# Altium footprint library con-molex-micro-fit-3_0.PCBLIB: 194 footprints (part 8 of 13)
Each footprint in its own frame and in the unit in brackets; x right, y up, seen from the top. Pads: shape width x height; smd on the part's side, far side on the other; paste and mask are expansions set on the pad; w line width, h text height; cw(c..) or ccw(c..) is an arc to the next point about the centre after c.
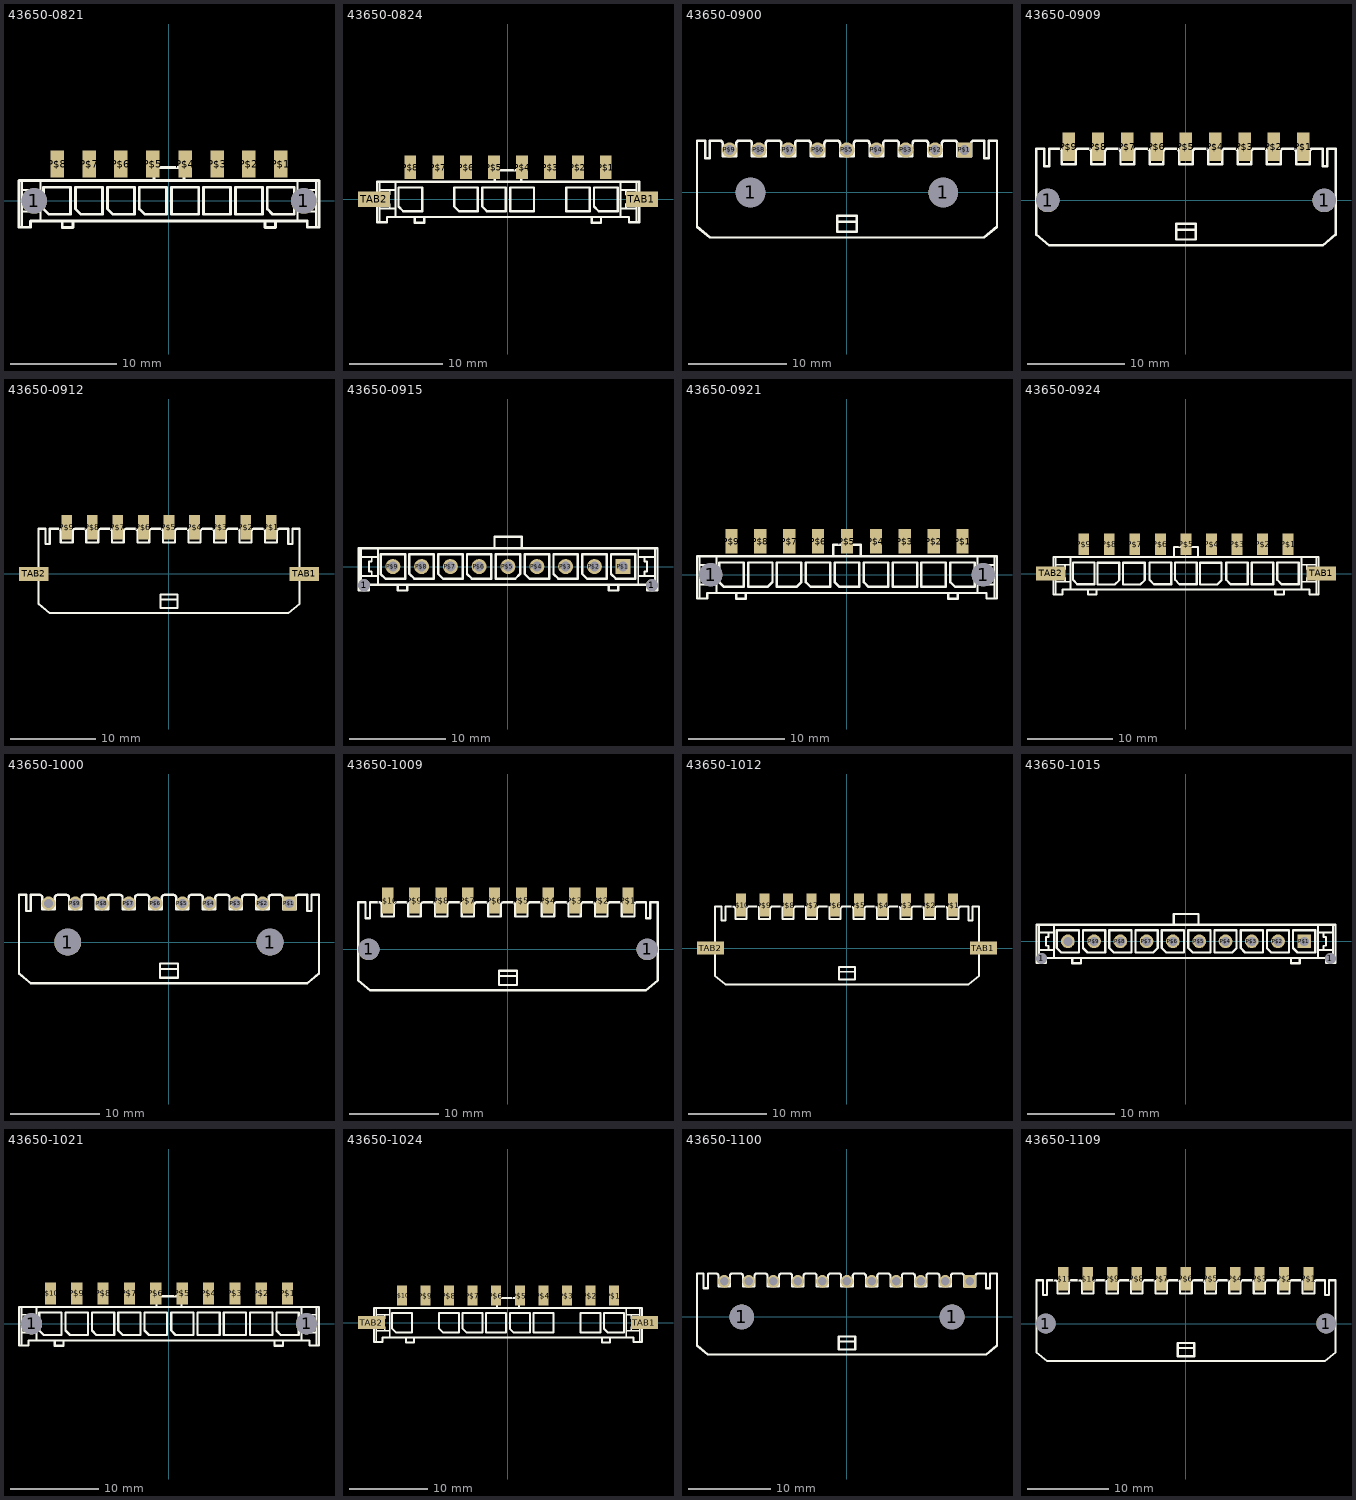
[diagram p7: the footprints below, top view; thin cyan lines are the x and y axes]

## 43650-0821 [mil]
pads (10):
  round 95 hole 95: 1(-498.03,0) 1(499,0)
  rect 50x100 smd: P$1(414,136) P$2(296,136) P$3(178,136) P$4(60,136) P$5(-59.06,136) P$6(-177.17,136) P$7(-295.28,136) P$8(-413.39,136)
Top Overlay:
  lines w8: -543.31,-97.24 -543.31,-39.37 ; -543.31,75 -543.31,40 ; -475.2,-74.8 -475.2,-39.37 ; -475.2,75 -475.2,40 ; 476,-74.8 476,-39.37 ; 476,75 476,40 ; 544,-97.24 544,-39.37 ; 544,75 544,40 ; -543.31,-39.37 -543.31,40 ; -543.31,-39.37 -500,-39.37 ; -543.31,40 -500,40 ; -500,-39.37 -475.2,-39.37 ; -500,-39.37 -500,-19.68 -511.81,-19.68 -511.81,20 -500,20 -500,40 ; -500,40 -475.2,40 ; -475.2,-39.37 -475.2,40 ; 476,-39.37 476,40 ; 476,-39.37 500,-39.37 ; 476,40 500,40 ; 500,-39.37 544,-39.37 ; 500,-39.37 500,-19.68 512,-19.68 512,20 500,20 500,40 ; 500,40 544,40 ; 544,-39.37 544,40
  lines w10: -393.7,-74.8 -354.33,-74.8 ; -393.7,-74.8 -475.2,-74.8 -511.81,-74.8 -511.81,-97.24 -543.31,-97.24 -554.13,-97.24 -554.13,75 -543.31,75 -475.2,75 -55.12,75 ; -393.7,-74.8 -393.7,-98.43 -354.33,-98.43 -354.33,-74.8 ; -354.33,-74.8 355,-74.8 ; -55.12,75 56,75 ; -55.12,75 -55.12,123 56,123 56,75 ; 56,75 476,75 544,75 555,75 555,-97.24 544,-97.24 512,-97.24 512,-74.8 476,-74.8 394,-74.8 ; 355,-74.8 394,-74.8 ; 355,-74.8 355,-98.43 394,-98.43 394,-74.8 ; -463.39,-30 -463.39,50 -363.39,50 -363.39,-50 -443.39,-50 -463.39,-30 ; -345.28,-30 -345.28,50 -245.28,50 -245.28,-50 -325.28,-50 -345.28,-30 ; -227.17,-30 -227.17,50 -127.17,50 -127.17,-50 -207.17,-50 -227.17,-30 ; -109.06,-30 -109.06,50 -9.06,50 -9.06,-50 -89.06,-50 -109.06,-30 ; 10,-50 110,-50 110,50 10,50 10,-50 ; 128,-50 228,-50 228,50 128,50 128,-50 ; 246,-50 346,-50 346,50 246,50 246,-50 ; 364,-30 364,50 464,50 464,-50 384,-50 364,-30

## 43650-0824 [mil]
pads (10):
  rect 50x100 smd: P$1(414,136) P$2(296,136) P$3(178,136) P$4(60,136) P$5(-59.06,136) P$6(-177.17,136) P$7(-295.28,136) P$8(-413.39,136)
  rect 136x65 smd: TAB1(567,0) TAB2(-566.54,0)
Top Overlay:
  lines w8: -543.31,-97.24 -543.31,-39.37 ; -543.31,75 -543.31,40 ; -475.2,-74.8 -475.2,-39.37 ; -475.2,75 -475.2,40 ; 476,-74.8 476,-39.37 ; 476,75 476,40 ; 544,-97.24 544,-39.37 ; 544,75 544,40 ; -543.31,-39.37 -543.31,40 ; -543.31,-39.37 -500,-39.37 ; -543.31,40 -500,40 ; -500,-39.37 -475.2,-39.37 ; -500,-39.37 -500,-19.68 -511.81,-19.68 -511.81,20 -500,20 -500,40 ; -500,40 -475.2,40 ; -475.2,-39.37 -475.2,40 ; 476,-39.37 476,40 ; 476,-39.37 500,-39.37 ; 476,40 500,40 ; 500,-39.37 544,-39.37 ; 500,-39.37 500,-19.68 512,-19.68 512,20 500,20 500,40 ; 500,40 544,40 ; 544,-39.37 544,40
  lines w10: -393.7,-74.8 -354.33,-74.8 ; -393.7,-74.8 -475.2,-74.8 -511.81,-74.8 -511.81,-97.24 -543.31,-97.24 -554.13,-97.24 -554.13,75 -543.31,75 -475.2,75 -55.12,75 ; -393.7,-74.8 -393.7,-98.43 -354.33,-98.43 -354.33,-74.8 ; -354.33,-74.8 355,-74.8 ; -55.12,75 56,75 ; -55.12,75 -55.12,123 56,123 56,75 ; 56,75 476,75 544,75 555,75 555,-97.24 544,-97.24 512,-97.24 512,-74.8 476,-74.8 394,-74.8 ; 355,-74.8 394,-74.8 ; 355,-74.8 355,-98.43 394,-98.43 394,-74.8 ; -463.39,-30 -463.39,50 -363.39,50 -363.39,-50 -443.39,-50 -463.39,-30 ; -227.17,-30 -227.17,50 -127.17,50 -127.17,-50 -207.17,-50 -227.17,-30 ; -109.06,-30 -109.06,50 -9.06,50 -9.06,-50 -89.06,-50 -109.06,-30 ; 10,-50 110,-50 110,50 10,50 10,-50 ; 246,-50 346,-50 346,50 246,50 246,-50 ; 364,-30 364,50 464,50 464,-50 384,-50 364,-30
Bottom Overlay:
  lines w10: -345.28,-50 -345.28,50 -245.28,50 -245.28,-30 -265.28,-50 -345.28,-50 ; 128,-50 128,50 228,50 228,-30 208,-50 128,-50

## 43650-0900 [mil]
pads (11):
  round 119 hole 119: 1(-387.8,0) 1(388,0)
  rect 61.5x61.5 hole 41: P$1(473,171)
  round 61.5 hole 41: P$2(355,171) P$3(237,171) P$4(119,171) P$5(0,171) P$6(-118.11,171) P$7(-236.22,171) P$8(-354.33,171) P$9(-472.44,171)
Top Overlay:
  lines w10: -39.37,-118.11 -39.37,-157.48 40,-157.48 40,-118.11 ; -39.37,-118.11 -39.37,-94.49 40,-94.49 40,-118.11 ; -39.37,-118.11 40,-118.11 ; -603.15,-137.8 -603.15,209 -570.87,209 -570.87,138 -551.18,138 -551.18,209 -511.81,209 cw(c-511.91,197.09) -500,197 -500,146 -444.88,146 -444.88,197 cw(c-432.98,197.09) -433.07,209 -393.7,209 cw(c-393.8,197.09) -381.89,197 -381.89,146 -326.77,146 -326.77,197 cw(c-314.87,197.09) -314.96,209 -275.59,209 cw(c-275.69,197.09) -263.78,197 -263.78,146 -208.66,146 -208.66,197 cw(c-196.76,197.09) -196.85,209 -157.48,209 cw(c-157.57,197.09) -145.67,197 -145.67,146 -90.55,146 -90.55,197 cw(c-78.65,197.09) -78.74,209 -39.37,209 cw(c-39.46,197.09) -27.56,197 -27.56,146 28,146 28,197 cw(c40,197) 40,209 79,209 cw(c79,197) 91,197 91,146 146,146 146,197 cw(c158,197) 158,209 197,209 cw(c197,197) 209,197 209,146 264,146 264,197 cw(c276,197) 276,209 315,209 cw(c315,197) 327,197 327,146 382,146 382,197 cw(c394,197) 394,209 434,209 cw(c431.5,195.67) 445,197 445,146 500,146 500,197 cw(c512,197) 512,209 552,209 552,138 571,138 571,209 604,209 604,-137.8 552,-181.1 -551.18,-181.1 -603.15,-137.8

## 43650-0909 [mil]
pads (11):
  round 95 hole 95: 1(-557.09,0) 1(558,0)
  rect 50x115 smd: P$1(473,216) P$2(355,216) P$3(237,216) P$4(119,216) P$5(0,216) P$6(-118.11,216) P$7(-236.22,216) P$8(-354.33,216) P$9(-472.44,216)
Top Overlay:
  lines w10: -39.37,-118.11 -39.37,-157.48 40,-157.48 40,-118.11 ; -39.37,-118.11 -39.37,-94.49 40,-94.49 40,-118.11 ; -39.37,-118.11 40,-118.11 ; -603.15,-137.8 -603.15,209 -570.87,209 -570.87,138 -551.18,138 -551.18,209 -511.81,209 cw(c-511.91,197.09) -500,197 -500,146 -444.88,146 -444.88,197 cw(c-432.98,197.09) -433.07,209 -393.7,209 cw(c-393.8,197.09) -381.89,197 -381.89,146 -326.77,146 -326.77,197 cw(c-314.87,197.09) -314.96,209 -275.59,209 cw(c-275.69,197.09) -263.78,197 -263.78,146 -208.66,146 -208.66,197 cw(c-196.76,197.09) -196.85,209 -157.48,209 cw(c-157.57,197.09) -145.67,197 -145.67,146 -90.55,146 -90.55,197 cw(c-78.65,197.09) -78.74,209 -39.37,209 cw(c-39.46,197.09) -27.56,197 -27.56,146 28,146 28,197 cw(c40,197) 40,209 79,209 cw(c79,197) 91,197 91,146 146,146 146,197 cw(c158,197) 158,209 197,209 cw(c197,197) 209,197 209,146 264,146 264,197 cw(c276,197) 276,209 315,209 cw(c315,197) 327,197 327,146 382,146 382,197 cw(c394,197) 394,209 434,209 cw(c431.5,195.67) 445,197 445,146 500,146 500,197 cw(c512,197) 512,209 552,209 552,138 571,138 571,209 604,209 604,-137.8 552,-181.1 -551.18,-181.1 -603.15,-137.8

## 43650-0912 [mil]
pads (11):
  rect 50x115 smd: P$1(473,216) P$2(355,216) P$3(237,216) P$4(119,216) P$5(0,216) P$6(-118.11,216) P$7(-236.22,216) P$8(-354.33,216) P$9(-472.44,216)
  rect 136x65 smd: TAB1(626,0) TAB2(-625.2,0)
Top Overlay:
  lines w10: -39.37,-118.11 -39.37,-157.48 40,-157.48 40,-118.11 ; -39.37,-118.11 -39.37,-94.49 40,-94.49 40,-118.11 ; -39.37,-118.11 40,-118.11 ; -603.15,-137.8 -603.15,209 -570.87,209 -570.87,138 -551.18,138 -551.18,209 -511.81,209 cw(c-511.91,197.09) -500,197 -500,146 -444.88,146 -444.88,197 cw(c-432.98,197.09) -433.07,209 -393.7,209 cw(c-393.8,197.09) -381.89,197 -381.89,146 -326.77,146 -326.77,197 cw(c-314.87,197.09) -314.96,209 -275.59,209 cw(c-275.69,197.09) -263.78,197 -263.78,146 -208.66,146 -208.66,197 cw(c-196.76,197.09) -196.85,209 -157.48,209 cw(c-157.57,197.09) -145.67,197 -145.67,146 -90.55,146 -90.55,197 cw(c-78.65,197.09) -78.74,209 -39.37,209 cw(c-39.46,197.09) -27.56,197 -27.56,146 28,146 28,197 cw(c40,197) 40,209 79,209 cw(c79,197) 91,197 91,146 146,146 146,197 cw(c158,197) 158,209 197,209 cw(c197,197) 209,197 209,146 264,146 264,197 cw(c276,197) 276,209 315,209 cw(c315,197) 327,197 327,146 382,146 382,197 cw(c394,197) 394,209 434,209 cw(c431.5,195.67) 445,197 445,146 500,146 500,197 cw(c512,197) 512,209 552,209 552,138 571,138 571,209 604,209 604,-137.8 552,-181.1 -551.18,-181.1 -603.15,-137.8

## 43650-0915 [mil]
pads (11):
  round 50 hole 50: 1(-590.55,-77.17) 1(591,-77.17)
  rect 61.5x61.5 hole 41: P$1(473,0)
  round 61.5 hole 41: P$2(355,0) P$3(237,0) P$4(119,0) P$5(0,0) P$6(-118.11,0) P$7(-236.22,0) P$8(-354.33,0) P$9(-472.44,0)
Top Overlay:
  lines w8: -602.36,-97.24 -602.36,-39.37 ; -602.36,75 -602.36,40 ; -534.25,-74.8 -534.25,-39.37 ; -534.25,75 -534.25,40 ; 535,-74.8 535,-39.37 ; 535,75 535,40 ; 603,-97.24 603,-39.37 ; 603,75 603,40 ; -602.36,-39.37 -602.36,40 ; -602.36,-39.37 -559.06,-39.37 ; -602.36,40 -559.06,40 ; -559.06,-39.37 -534.25,-39.37 ; -559.06,-39.37 -559.06,-19.68 -570.87,-19.68 -570.87,20 -559.06,20 -559.06,40 ; -559.06,40 -534.25,40 ; -534.25,-39.37 -534.25,40 ; 535,-39.37 535,40 ; 535,-39.37 560,-39.37 ; 535,40 560,40 ; 560,-39.37 603,-39.37 ; 560,-39.37 560,-19.68 571,-19.68 571,20 560,20 560,40 ; 560,40 603,40 ; 603,-39.37 603,40
  lines w10: -452.76,-74.8 -413.39,-74.8 ; -452.76,-74.8 -534.25,-74.8 -570.87,-74.8 -570.87,-97.24 -602.36,-97.24 -613.19,-97.24 -613.19,75 -602.36,75 -534.25,75 -55.12,75 ; -452.76,-74.8 -452.76,-98.43 -413.39,-98.43 -413.39,-74.8 ; -413.39,-74.8 414,-74.8 ; -55.12,75 56,75 ; -55.12,75 -55.12,123 56,123 56,75 ; 56,75 535,75 603,75 614,75 614,-97.24 603,-97.24 571,-97.24 571,-74.8 535,-74.8 453,-74.8 ; 414,-74.8 453,-74.8 ; 414,-74.8 414,-98.43 453,-98.43 453,-74.8 ; -522.44,-30 -522.44,50 -422.44,50 -422.44,-50 -502.44,-50 -522.44,-30 ; -404.33,-30 -404.33,50 -304.33,50 -304.33,-50 -384.33,-50 -404.33,-30 ; -286.22,-30 -286.22,50 -186.22,50 -186.22,-50 -266.22,-50 -286.22,-30 ; -168.11,-30 -168.11,50 -68.11,50 -68.11,-50 -148.11,-50 -168.11,-30 ; -50,-50 -50,50 50,50 50,-30 30,-50 -50,-50 ; 69,-30 69,50 169,50 169,-50 89,-50 69,-30 ; 187,-30 187,50 287,50 287,-50 207,-50 187,-30 ; 305,-30 305,50 405,50 405,-50 325,-50 305,-30 ; 423,-30 423,50 523,50 523,-50 443,-50 423,-30

## 43650-0921 [mil]
pads (11):
  round 95 hole 95: 1(-557.09,0) 1(558,0)
  rect 50x100 smd: P$1(473,136) P$2(355,136) P$3(237,136) P$4(119,136) P$5(0,136) P$6(-118.11,136) P$7(-236.22,136) P$8(-354.33,136) P$9(-472.44,136)
Top Overlay:
  lines w8: -602.36,-97.24 -602.36,-39.37 ; -602.36,75 -602.36,40 ; -534.25,-74.8 -534.25,-39.37 ; -534.25,75 -534.25,40 ; 535,-74.8 535,-39.37 ; 535,75 535,40 ; 603,-97.24 603,-39.37 ; 603,75 603,40 ; -602.36,-39.37 -602.36,40 ; -602.36,-39.37 -559.06,-39.37 ; -602.36,40 -559.06,40 ; -559.06,-39.37 -534.25,-39.37 ; -559.06,-39.37 -559.06,-19.68 -570.87,-19.68 -570.87,20 -559.06,20 -559.06,40 ; -559.06,40 -534.25,40 ; -534.25,-39.37 -534.25,40 ; 535,-39.37 535,40 ; 535,-39.37 560,-39.37 ; 535,40 560,40 ; 560,-39.37 603,-39.37 ; 560,-39.37 560,-19.68 571,-19.68 571,20 560,20 560,40 ; 560,40 603,40 ; 603,-39.37 603,40
  lines w10: -452.76,-74.8 -413.39,-74.8 ; -452.76,-74.8 -534.25,-74.8 -570.87,-74.8 -570.87,-97.24 -602.36,-97.24 -613.19,-97.24 -613.19,75 -602.36,75 -534.25,75 -55.12,75 ; -452.76,-74.8 -452.76,-98.43 -413.39,-98.43 -413.39,-74.8 ; -413.39,-74.8 414,-74.8 ; -55.12,75 56,75 ; -55.12,75 -55.12,123 56,123 56,75 ; 56,75 535,75 603,75 614,75 614,-97.24 603,-97.24 571,-97.24 571,-74.8 535,-74.8 453,-74.8 ; 414,-74.8 453,-74.8 ; 414,-74.8 414,-98.43 453,-98.43 453,-74.8 ; -522.44,-30 -522.44,50 -422.44,50 -422.44,-50 -502.44,-50 -522.44,-30 ; -404.33,-50 -404.33,50 -304.33,50 -304.33,-30 -324.33,-50 -404.33,-50 ; -286.22,-50 -286.22,50 -186.22,50 -186.22,-30 -206.22,-50 -286.22,-50 ; -168.11,-30 -168.11,50 -68.11,50 -68.11,-50 -148.11,-50 -168.11,-30 ; -50,-30 -50,50 50,50 50,-50 -30,-50 -50,-30 ; 69,-30 69,50 169,50 169,-50 89,-50 69,-30 ; 187,-50 287,-50 287,50 187,50 187,-50 ; 305,-50 405,-50 405,50 305,50 305,-50 ; 423,-30 423,50 523,50 523,-50 443,-50 423,-30

## 43650-0924 [mil]
pads (11):
  rect 50x100 smd: P$1(474,138) P$2(356,138) P$3(238,138) P$4(120,138) P$5(2,138) P$6(-116.68,138) P$7(-234.79,138) P$8(-352.9,138) P$9(-471.01,138)
  rect 136x65 smd: TAB1(628,3) TAB2(-624.16,3)
Top Overlay:
  lines w8: -600.93,-94.37 -600.93,-36.5 ; -600.93,78 -600.93,43 ; -532.82,-71.93 -532.82,-36.5 ; -532.82,78 -532.82,43 ; 536,-71.93 536,-36.5 ; 536,78 536,43 ; 604,-94.37 604,-36.5 ; 604,78 604,43 ; -600.93,-36.5 -600.93,43 ; -600.93,-36.5 -557.62,-36.5 ; -600.93,43 -557.62,43 ; -557.62,-36.5 -532.82,-36.5 ; -557.62,-36.5 -557.62,-16.81 -569.43,-16.81 -569.43,23 -557.62,23 -557.62,43 ; -557.62,43 -532.82,43 ; -532.82,-36.5 -532.82,43 ; 536,-36.5 536,43 ; 536,-36.5 561,-36.5 ; 536,43 561,43 ; 561,-36.5 604,-36.5 ; 561,-36.5 561,-16.81 573,-16.81 573,23 561,23 561,43 ; 561,43 604,43 ; 604,-36.5 604,43
  lines w10: -451.32,-71.93 -411.95,-71.93 ; -451.32,-71.93 -532.82,-71.93 -569.43,-71.93 -569.43,-94.37 -600.93,-94.37 -611.76,-94.37 -611.76,78 -600.93,78 -532.82,78 -53.69,78 ; -451.32,-71.93 -451.32,-95.55 -411.95,-95.55 -411.95,-71.93 ; -411.95,-71.93 415,-71.93 ; -53.69,78 57,78 ; -53.69,78 -53.69,125 57,125 57,78 ; 57,78 536,78 604,78 615,78 615,-94.37 604,-94.37 573,-94.37 573,-71.93 536,-71.93 455,-71.93 ; 415,-71.93 455,-71.93 ; 415,-71.93 415,-95.55 455,-95.55 455,-71.93 ; -521.01,-27.13 -521.01,53 -421.01,53 -421.01,-47.13 -501.01,-47.13 -521.01,-27.13 ; -407.2,-48.57 -407.2,52 -307.2,52 -307.2,-28.57 -327.2,-48.57 -407.2,-48.57 ; -289.09,-48.57 -289.09,52 -189.09,52 -189.09,-28.57 -209.09,-48.57 -289.09,-48.57 ; -166.68,-27.13 -166.68,53 -66.68,53 -66.68,-47.13 -146.68,-47.13 -166.68,-27.13 ; -48.57,-27.13 -48.57,53 52,53 52,-47.13 -28.57,-47.13 -48.57,-27.13 ; 66,-48.57 66,52 166,52 166,-28.57 146,-48.57 66,-48.57 ; 188,-27.13 188,53 288,53 288,-47.13 208,-47.13 188,-27.13 ; 306,-47.13 406,-47.13 406,53 306,53 306,-47.13 ; 424,-27.13 424,53 524,53 524,-47.13 444,-47.13 424,-27.13

## 43650-1000 [mil]
pads (12):
  round 119 hole 119: 1(-446.85,0) 1(447,0)
  rect 61.5x61.5 hole 41: P$1(532,171)
  round 61.5 hole 41: P$2(414,171) P$3(296,171) P$4(178,171) P$5(60,171) P$6(-59.06,171) P$7(-177.17,171) P$8(-295.28,171) P$9(-413.39,171) P$10(-531.5,171)
Top Overlay:
  lines w10: -39.37,-118.11 -39.37,-157.48 40,-157.48 40,-118.11 ; -39.37,-118.11 -39.37,-94.49 40,-94.49 40,-118.11 ; -39.37,-118.11 40,-118.11 ; -662.2,-137.8 -662.2,209 -629.92,209 -629.92,138 -610.24,138 -610.24,209 -570.87,209 cw(c-570.96,197.09) -559.06,197 -559.06,146 -503.94,146 -503.94,197 cw(c-492.03,197.09) -492.13,209 -452.76,209 cw(c-452.85,197.09) -440.94,197 -440.94,146 -385.83,146 -385.83,197 cw(c-373.92,197.09) -374.02,209 -334.65,209 cw(c-334.74,197.09) -322.83,197 -322.83,146 -267.72,146 -267.72,197 cw(c-255.81,197.09) -255.91,209 -216.54,209 cw(c-216.63,197.09) -204.72,197 -204.72,146 -149.61,146 -149.61,197 cw(c-137.7,197.09) -137.8,209 -98.43,209 cw(c-98.52,197.09) -86.61,197 -86.61,146 -31.5,146 -31.5,197 cw(c-19.59,197.09) -19.69,209 20,209 cw(c20,197) 32,197 32,146 87,146 87,197 cw(c99,197) 99,209 138,209 cw(c138,197) 150,197 150,146 205,146 205,197 cw(c217,197) 217,209 256,209 cw(c256,197) 268,197 268,146 323,146 323,197 cw(c335,197) 335,209 375,209 cw(c374.5,197.5) 386,197 386,146 441,146 441,197 cw(c453,197) 453,209 493,209 cw(c490.5,195.67) 504,197 504,146 560,146 560,197 cw(c571.5,197.5) 571,209 611,209 611,138 630,138 630,209 663,209 663,-137.8 611,-181.1 -610.24,-181.1 -662.2,-137.8

## 43650-1009 [mil]
pads (12):
  round 95 hole 95: 1(-616.14,0) 1(617,0)
  rect 50x115 smd: P$1(532,216) P$2(414,216) P$3(296,216) P$4(178,216) P$5(60,216) P$6(-59.06,216) P$7(-177.17,216) P$8(-295.28,216) P$9(-413.39,216) P$10(-531.5,216)
Top Overlay:
  lines w10: -39.37,-118.11 -39.37,-157.48 40,-157.48 40,-118.11 ; -39.37,-118.11 -39.37,-94.49 40,-94.49 40,-118.11 ; -39.37,-118.11 40,-118.11 ; -662.2,-137.8 -662.2,209 -629.92,209 -629.92,138 -610.24,138 -610.24,209 -570.87,209 cw(c-570.96,197.09) -559.06,197 -559.06,146 -503.94,146 -503.94,197 cw(c-492.03,197.09) -492.13,209 -452.76,209 cw(c-452.85,197.09) -440.94,197 -440.94,146 -385.83,146 -385.83,197 cw(c-373.92,197.09) -374.02,209 -334.65,209 cw(c-334.74,197.09) -322.83,197 -322.83,146 -267.72,146 -267.72,197 cw(c-255.81,197.09) -255.91,209 -216.54,209 cw(c-216.63,197.09) -204.72,197 -204.72,146 -149.61,146 -149.61,197 cw(c-137.7,197.09) -137.8,209 -98.43,209 cw(c-98.52,197.09) -86.61,197 -86.61,146 -31.5,146 -31.5,197 cw(c-19.59,197.09) -19.69,209 20,209 cw(c20,197) 32,197 32,146 87,146 87,197 cw(c99,197) 99,209 138,209 cw(c138,197) 150,197 150,146 205,146 205,197 cw(c217,197) 217,209 256,209 cw(c256,197) 268,197 268,146 323,146 323,197 cw(c335,197) 335,209 375,209 cw(c374.5,197.5) 386,197 386,146 441,146 441,197 cw(c453,197) 453,209 493,209 cw(c490.5,195.67) 504,197 504,146 560,146 560,197 cw(c571.5,197.5) 571,209 611,209 611,138 630,138 630,209 663,209 663,-137.8 611,-181.1 -610.24,-181.1 -662.2,-137.8

## 43650-1012 [mil]
pads (12):
  rect 50x115 smd: P$1(532,216) P$2(414,216) P$3(296,216) P$4(178,216) P$5(60,216) P$6(-59.06,216) P$7(-177.17,216) P$8(-295.28,216) P$9(-413.39,216) P$10(-531.5,216)
  rect 136x65 smd: TAB1(685,0) TAB2(-684.25,0)
Top Overlay:
  lines w10: -39.37,-118.11 -39.37,-157.48 40,-157.48 40,-118.11 ; -39.37,-118.11 -39.37,-94.49 40,-94.49 40,-118.11 ; -39.37,-118.11 40,-118.11 ; -662.2,-137.8 -662.2,209 -629.92,209 -629.92,138 -610.24,138 -610.24,209 -570.87,209 cw(c-570.96,197.09) -559.06,197 -559.06,146 -503.94,146 -503.94,197 cw(c-492.03,197.09) -492.13,209 -452.76,209 cw(c-452.85,197.09) -440.94,197 -440.94,146 -385.83,146 -385.83,197 cw(c-373.92,197.09) -374.02,209 -334.65,209 cw(c-334.74,197.09) -322.83,197 -322.83,146 -267.72,146 -267.72,197 cw(c-255.81,197.09) -255.91,209 -216.54,209 cw(c-216.63,197.09) -204.72,197 -204.72,146 -149.61,146 -149.61,197 cw(c-137.7,197.09) -137.8,209 -98.43,209 cw(c-98.52,197.09) -86.61,197 -86.61,146 -31.5,146 -31.5,197 cw(c-19.59,197.09) -19.69,209 20,209 cw(c20,197) 32,197 32,146 87,146 87,197 cw(c99,197) 99,209 138,209 cw(c138,197) 150,197 150,146 205,146 205,197 cw(c217,197) 217,209 256,209 cw(c256,197) 268,197 268,146 323,146 323,197 cw(c335,197) 335,209 375,209 cw(c374.5,197.5) 386,197 386,146 441,146 441,197 cw(c453,197) 453,209 493,209 cw(c490.5,195.67) 504,197 504,146 560,146 560,197 cw(c571.5,197.5) 571,209 611,209 611,138 630,138 630,209 663,209 663,-137.8 611,-181.1 -610.24,-181.1 -662.2,-137.8

## 43650-1015 [mil]
pads (12):
  round 50 hole 50: 1(-649.61,-77.17) 1(650,-77.17)
  rect 61.5x61.5 hole 41: P$1(532,0)
  round 61.5 hole 41: P$2(414,0) P$3(296,0) P$4(178,0) P$5(60,0) P$6(-59.06,0) P$7(-177.17,0) P$8(-295.28,0) P$9(-413.39,0) P$10(-531.5,0)
Top Overlay:
  lines w8: -661.42,-97.24 -661.42,-39.37 ; -661.42,75 -661.42,40 ; -593.31,-74.8 -593.31,-39.37 ; -593.31,75 -593.31,40 ; 594,-74.8 594,-39.37 ; 594,75 594,40 ; 662,-97.24 662,-39.37 ; 662,75 662,40 ; -661.42,-39.37 -661.42,40 ; -661.42,-39.37 -618.11,-39.37 ; -661.42,40 -618.11,40 ; -618.11,-39.37 -593.31,-39.37 ; -618.11,-39.37 -618.11,-19.68 -629.92,-19.68 -629.92,20 -618.11,20 -618.11,40 ; -618.11,40 -593.31,40 ; -593.31,-39.37 -593.31,40 ; 594,-39.37 594,40 ; 594,-39.37 619,-39.37 ; 594,40 619,40 ; 619,-39.37 662,-39.37 ; 619,-39.37 619,-19.68 630,-19.68 630,20 619,20 619,40 ; 619,40 662,40 ; 662,-39.37 662,40
  lines w10: -511.81,-74.8 -472.44,-74.8 ; -511.81,-74.8 -593.31,-74.8 -629.92,-74.8 -629.92,-97.24 -661.42,-97.24 -672.24,-97.24 -672.24,75 -661.42,75 -593.31,75 -55.12,75 ; -511.81,-74.8 -511.81,-98.43 -472.44,-98.43 -472.44,-74.8 ; -472.44,-74.8 473,-74.8 ; -55.12,75 56,75 ; -55.12,75 -55.12,123 56,123 56,75 ; 56,75 594,75 662,75 673,75 673,-97.24 662,-97.24 630,-97.24 630,-74.8 594,-74.8 512,-74.8 ; 473,-74.8 512,-74.8 ; 473,-74.8 473,-98.43 512,-98.43 512,-74.8 ; -581.5,-30 -581.5,50 -481.5,50 -481.5,-50 -561.5,-50 -581.5,-30 ; -463.39,-30 -463.39,50 -363.39,50 -363.39,-50 -443.39,-50 -463.39,-30 ; -345.28,-30 -345.28,50 -245.28,50 -245.28,-50 -325.28,-50 -345.28,-30 ; -227.17,-50 -227.17,50 -127.17,50 -127.17,-30 -147.17,-50 -227.17,-50 ; -109.06,-30 -109.06,50 -9.06,50 -9.06,-50 -89.06,-50 -109.06,-30 ; 10,-30 10,50 110,50 110,-50 30,-50 10,-30 ; 128,-50 128,50 228,50 228,-30 208,-50 128,-50 ; 246,-30 246,50 346,50 346,-50 266,-50 246,-30 ; 364,-30 364,50 464,50 464,-50 384,-50 364,-30 ; 482,-30 482,50 582,50 582,-50 502,-50 482,-30

## 43650-1021 [mil]
pads (12):
  round 95 hole 95: 1(-616.14,0) 1(617,0)
  rect 50x100 smd: P$1(532,136) P$2(414,136) P$3(296,136) P$4(178,136) P$5(60,136) P$6(-59.06,136) P$7(-177.17,136) P$8(-295.28,136) P$9(-413.39,136) P$10(-531.5,136)
Top Overlay:
  lines w8: -661.42,-97.24 -661.42,-39.37 ; -661.42,75 -661.42,40 ; -593.31,-74.8 -593.31,-39.37 ; -593.31,75 -593.31,40 ; 594,-74.8 594,-39.37 ; 594,75 594,40 ; 662,-97.24 662,-39.37 ; 662,75 662,40 ; -661.42,-39.37 -661.42,40 ; -661.42,-39.37 -618.11,-39.37 ; -661.42,40 -618.11,40 ; -618.11,-39.37 -593.31,-39.37 ; -618.11,-39.37 -618.11,-19.68 -629.92,-19.68 -629.92,20 -618.11,20 -618.11,40 ; -618.11,40 -593.31,40 ; -593.31,-39.37 -593.31,40 ; 594,-39.37 594,40 ; 594,-39.37 619,-39.37 ; 594,40 619,40 ; 619,-39.37 662,-39.37 ; 619,-39.37 619,-19.68 630,-19.68 630,20 619,20 619,40 ; 619,40 662,40 ; 662,-39.37 662,40
  lines w10: -511.81,-74.8 -472.44,-74.8 ; -511.81,-74.8 -593.31,-74.8 -629.92,-74.8 -629.92,-97.24 -661.42,-97.24 -672.24,-97.24 -672.24,75 -661.42,75 -593.31,75 -55.12,75 ; -511.81,-74.8 -511.81,-98.43 -472.44,-98.43 -472.44,-74.8 ; -472.44,-74.8 473,-74.8 ; -55.12,75 56,75 ; -55.12,75 -55.12,123 56,123 56,75 ; 56,75 594,75 662,75 673,75 673,-97.24 662,-97.24 630,-97.24 630,-74.8 594,-74.8 512,-74.8 ; 473,-74.8 512,-74.8 ; 473,-74.8 473,-98.43 512,-98.43 512,-74.8 ; -581.5,-30 -581.5,50 -481.5,50 -481.5,-50 -561.5,-50 -581.5,-30 ; -463.39,-30 -463.39,50 -363.39,50 -363.39,-50 -443.39,-50 -463.39,-30 ; -345.28,-30 -345.28,50 -245.28,50 -245.28,-50 -325.28,-50 -345.28,-30 ; -227.17,-30 -227.17,50 -127.17,50 -127.17,-50 -207.17,-50 -227.17,-30 ; -109.06,-30 -109.06,50 -9.06,50 -9.06,-50 -89.06,-50 -109.06,-30 ; 10,-30 10,50 110,50 110,-50 30,-50 10,-30 ; 128,-50 228,-50 228,50 128,50 128,-50 ; 246,-50 346,-50 346,50 246,50 246,-50 ; 364,-50 464,-50 464,50 364,50 364,-50 ; 482,-30 482,50 582,50 582,-50 502,-50 482,-30

## 43650-1024 [mil]
pads (12):
  rect 50x100 smd: P$1(532,136) P$2(414,136) P$3(296,136) P$4(178,136) P$5(60,136) P$6(-59.06,136) P$7(-177.17,136) P$8(-295.28,136) P$9(-413.39,136) P$10(-531.5,136)
  rect 136x65 smd: TAB1(685,0) TAB2(-684.65,0)
Top Overlay:
  lines w8: -661.42,-97.24 -661.42,-39.37 ; -661.42,75 -661.42,40 ; -593.31,-74.8 -593.31,-39.37 ; -593.31,75 -593.31,40 ; 594,-74.8 594,-39.37 ; 594,75 594,40 ; 662,-97.24 662,-39.37 ; 662,75 662,40 ; -661.42,-39.37 -661.42,40 ; -661.42,-39.37 -618.11,-39.37 ; -661.42,40 -618.11,40 ; -618.11,-39.37 -593.31,-39.37 ; -618.11,-39.37 -618.11,-19.68 -629.92,-19.68 -629.92,20 -618.11,20 -618.11,40 ; -618.11,40 -593.31,40 ; -593.31,-39.37 -593.31,40 ; 594,-39.37 594,40 ; 594,-39.37 619,-39.37 ; 594,40 619,40 ; 619,-39.37 662,-39.37 ; 619,-39.37 619,-19.68 630,-19.68 630,20 619,20 619,40 ; 619,40 662,40 ; 662,-39.37 662,40
  lines w10: -511.81,-74.8 -472.44,-74.8 ; -511.81,-74.8 -593.31,-74.8 -629.92,-74.8 -629.92,-97.24 -661.42,-97.24 -672.24,-97.24 -672.24,75 -661.42,75 -593.31,75 -55.12,75 ; -511.81,-74.8 -511.81,-98.43 -472.44,-98.43 -472.44,-74.8 ; -472.44,-74.8 473,-74.8 ; -55.12,75 56,75 ; -55.12,75 -55.12,123 56,123 56,75 ; 56,75 594,75 662,75 673,75 673,-97.24 662,-97.24 630,-97.24 630,-74.8 594,-74.8 512,-74.8 ; 473,-74.8 512,-74.8 ; 473,-74.8 473,-98.43 512,-98.43 512,-74.8 ; -581.5,-30 -581.5,50 -481.5,50 -481.5,-50 -561.5,-50 -581.5,-30 ; -345.28,-30 -345.28,50 -245.28,50 -245.28,-50 -325.28,-50 -345.28,-30 ; -227.17,-30 -227.17,50 -127.17,50 -127.17,-50 -207.17,-50 -227.17,-30 ; -109.06,-50 -9.06,-50 -9.06,50 -109.06,50 -109.06,-50 ; 10,-30 10,50 110,50 110,-50 30,-50 10,-30 ; 128,-50 228,-50 228,50 128,50 128,-50 ; 364,-50 464,-50 464,50 364,50 364,-50 ; 482,-30 482,50 582,50 582,-50 502,-50 482,-30
Bottom Overlay:
  lines w10: -463.39,-50 -463.39,50 -363.39,50 -363.39,-30 -383.39,-50 -463.39,-50 ; 246,-50 246,50 346,50 346,-30 326,-50 246,-50

## 43650-1100 [mil]
pads (13):
  round 119 hole 119: 1(-505.91,0) 1(506,0)
  rect 61.5x61.5 hole 41: P$1(591,171)
  round 61.5 hole 41: P$2(473,171) P$3(355,171) P$4(237,171) P$5(119,171) P$6(0,171) P$7(-118.11,171) P$8(-236.22,171) P$9(-354.33,171) P$10(-472.44,171) P$11(-590.55,171)
Top Overlay:
  lines w10: -39.37,-118.11 -39.37,-157.48 40,-157.48 40,-118.11 ; -39.37,-118.11 -39.37,-94.49 40,-94.49 40,-118.11 ; -39.37,-118.11 40,-118.11 ; -721.26,-137.8 -721.26,209 -688.98,209 -688.98,138 -669.29,138 -669.29,209 -629.92,209 cw(c-630.02,197.09) -618.11,197 -618.11,146 -562.99,146 -562.99,197 cw(c-551.09,197.09) -551.18,209 -511.81,209 cw(c-511.91,197.09) -500,197 -500,146 -444.88,146 -444.88,197 cw(c-432.98,197.09) -433.07,209 -393.7,209 cw(c-393.8,197.09) -381.89,197 -381.89,146 -326.77,146 -326.77,197 cw(c-314.87,197.09) -314.96,209 -275.59,209 cw(c-275.69,197.09) -263.78,197 -263.78,146 -208.66,146 -208.66,197 cw(c-196.76,197.09) -196.85,209 -157.48,209 cw(c-157.57,197.09) -145.67,197 -145.67,146 -90.55,146 -90.55,197 cw(c-78.65,197.09) -78.74,209 -39.37,209 cw(c-39.46,197.09) -27.56,197 -27.56,146 28,146 28,197 cw(c40,197) 40,209 79,209 cw(c79,197) 91,197 91,146 146,146 146,197 cw(c158,197) 158,209 197,209 cw(c197,197) 209,197 209,146 264,146 264,197 cw(c276,197) 276,209 315,209 cw(c315,197) 327,197 327,146 382,146 382,197 cw(c394,197) 394,209 434,209 cw(c433.5,197.5) 445,197 445,146 500,146 500,197 cw(c512,197) 512,209 552,209 cw(c549.5,195.67) 563,197 563,146 619,146 619,197 cw(c630.5,197.5) 630,209 670,209 670,138 689,138 689,209 722,209 722,-137.8 670,-181.1 -669.29,-181.1 -721.26,-137.8

## 43650-1109 [mil]
pads (13):
  round 95 hole 95: 1(-675.2,0) 1(676,0)
  rect 50x115 smd: P$1(591,216) P$2(473,216) P$3(355,216) P$4(237,216) P$5(119,216) P$6(0,216) P$7(-118.11,216) P$8(-236.22,216) P$9(-354.33,216) P$10(-472.44,216) P$11(-590.55,216)
Top Overlay:
  lines w10: -39.37,-118.11 -39.37,-157.48 40,-157.48 40,-118.11 ; -39.37,-118.11 -39.37,-94.49 40,-94.49 40,-118.11 ; -39.37,-118.11 40,-118.11 ; -721.26,-137.8 -721.26,209 -688.98,209 -688.98,138 -669.29,138 -669.29,209 -629.92,209 cw(c-630.02,197.09) -618.11,197 -618.11,146 -562.99,146 -562.99,197 cw(c-551.09,197.09) -551.18,209 -511.81,209 cw(c-511.91,197.09) -500,197 -500,146 -444.88,146 -444.88,197 cw(c-432.98,197.09) -433.07,209 -393.7,209 cw(c-393.8,197.09) -381.89,197 -381.89,146 -326.77,146 -326.77,197 cw(c-314.87,197.09) -314.96,209 -275.59,209 cw(c-275.69,197.09) -263.78,197 -263.78,146 -208.66,146 -208.66,197 cw(c-196.76,197.09) -196.85,209 -157.48,209 cw(c-157.57,197.09) -145.67,197 -145.67,146 -90.55,146 -90.55,197 cw(c-78.65,197.09) -78.74,209 -39.37,209 cw(c-39.46,197.09) -27.56,197 -27.56,146 28,146 28,197 cw(c40,197) 40,209 79,209 cw(c79,197) 91,197 91,146 146,146 146,197 cw(c158,197) 158,209 197,209 cw(c197,197) 209,197 209,146 264,146 264,197 cw(c276,197) 276,209 315,209 cw(c315,197) 327,197 327,146 382,146 382,197 cw(c394,197) 394,209 434,209 cw(c433.5,197.5) 445,197 445,146 500,146 500,197 cw(c512,197) 512,209 552,209 cw(c549.5,195.67) 563,197 563,146 619,146 619,197 cw(c630.5,197.5) 630,209 670,209 670,138 689,138 689,209 722,209 722,-137.8 670,-181.1 -669.29,-181.1 -721.26,-137.8